# Altium schematic symbol library R-CRCW060310R0JNEA.Schlib: 1 symbol
Pins are listed as number, name and electrical type; pins without a type are passive.

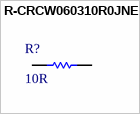
[diagram p0: symbol R-CRCW060310R0JNEA]

## R-CRCW060310R0JNEA
designator R?, comment 10R
Thick Film Resistors - SMD 1/10watt 10ohms 5%
pins: 1, 2